# EAGLE library part SWITCH_DUAL_SPDT (library QuantumOptics)
Dual SPDT, such as ADG436. Drawn in two parts.
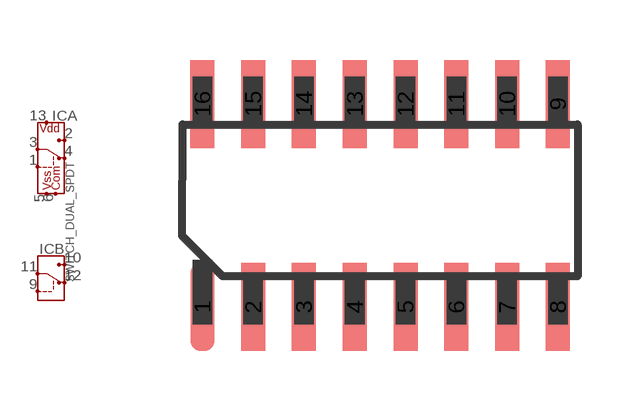
[diagram p165: symbol with the pads of SOIC-16; footprint SOIC-16]

Designator prefix IC; gates A=SWITCH_DUAL_SPDT_A B=SWITCH_DUAL_SPDT_B

## SWITCH_DUAL_SPDT-SOIC16  [SOIC-16]
1  A:CTRL
2  A:NO
3  A:C
4  A:NC
5  A:VSS
6  A:COM
9  B:CTRL
10  B:NO
11  B:C
12  B:NC
13  A:VDD

## Footprint SOIC-16 (pad centres in mm)
SOIC-16, 0.05" pad spacing with 0.15" wide case.
smd 0.6 x 2.2: 1 -3.81,-2.54; 2 -2.54,-2.54; 3 -1.27,-2.54; 4 0,-2.54; 5 1.27,-2.54; 6 2.54,-2.54; 7 3.81,-2.54; 8 5.08,-2.54; 9 5.08,2.54; 10 3.81,2.54; 11 2.54,2.54; 12 1.27,2.54; 13 0,2.54; 14 -1.27,2.54; 15 -2.54,2.54; 16 -3.81,2.54